# Altium footprint library Active-LED.PcbLib: 43 footprints (part 2 of 3)
Each footprint in its own frame and in the unit in brackets; x right, y up, seen from the top. Pads: shape width x height; smd on the part's side, far side on the other; paste and mask are expansions set on the pad; w line width, h text height; cw(c..) or ccw(c..) is an arc to the next point about the centre after c.
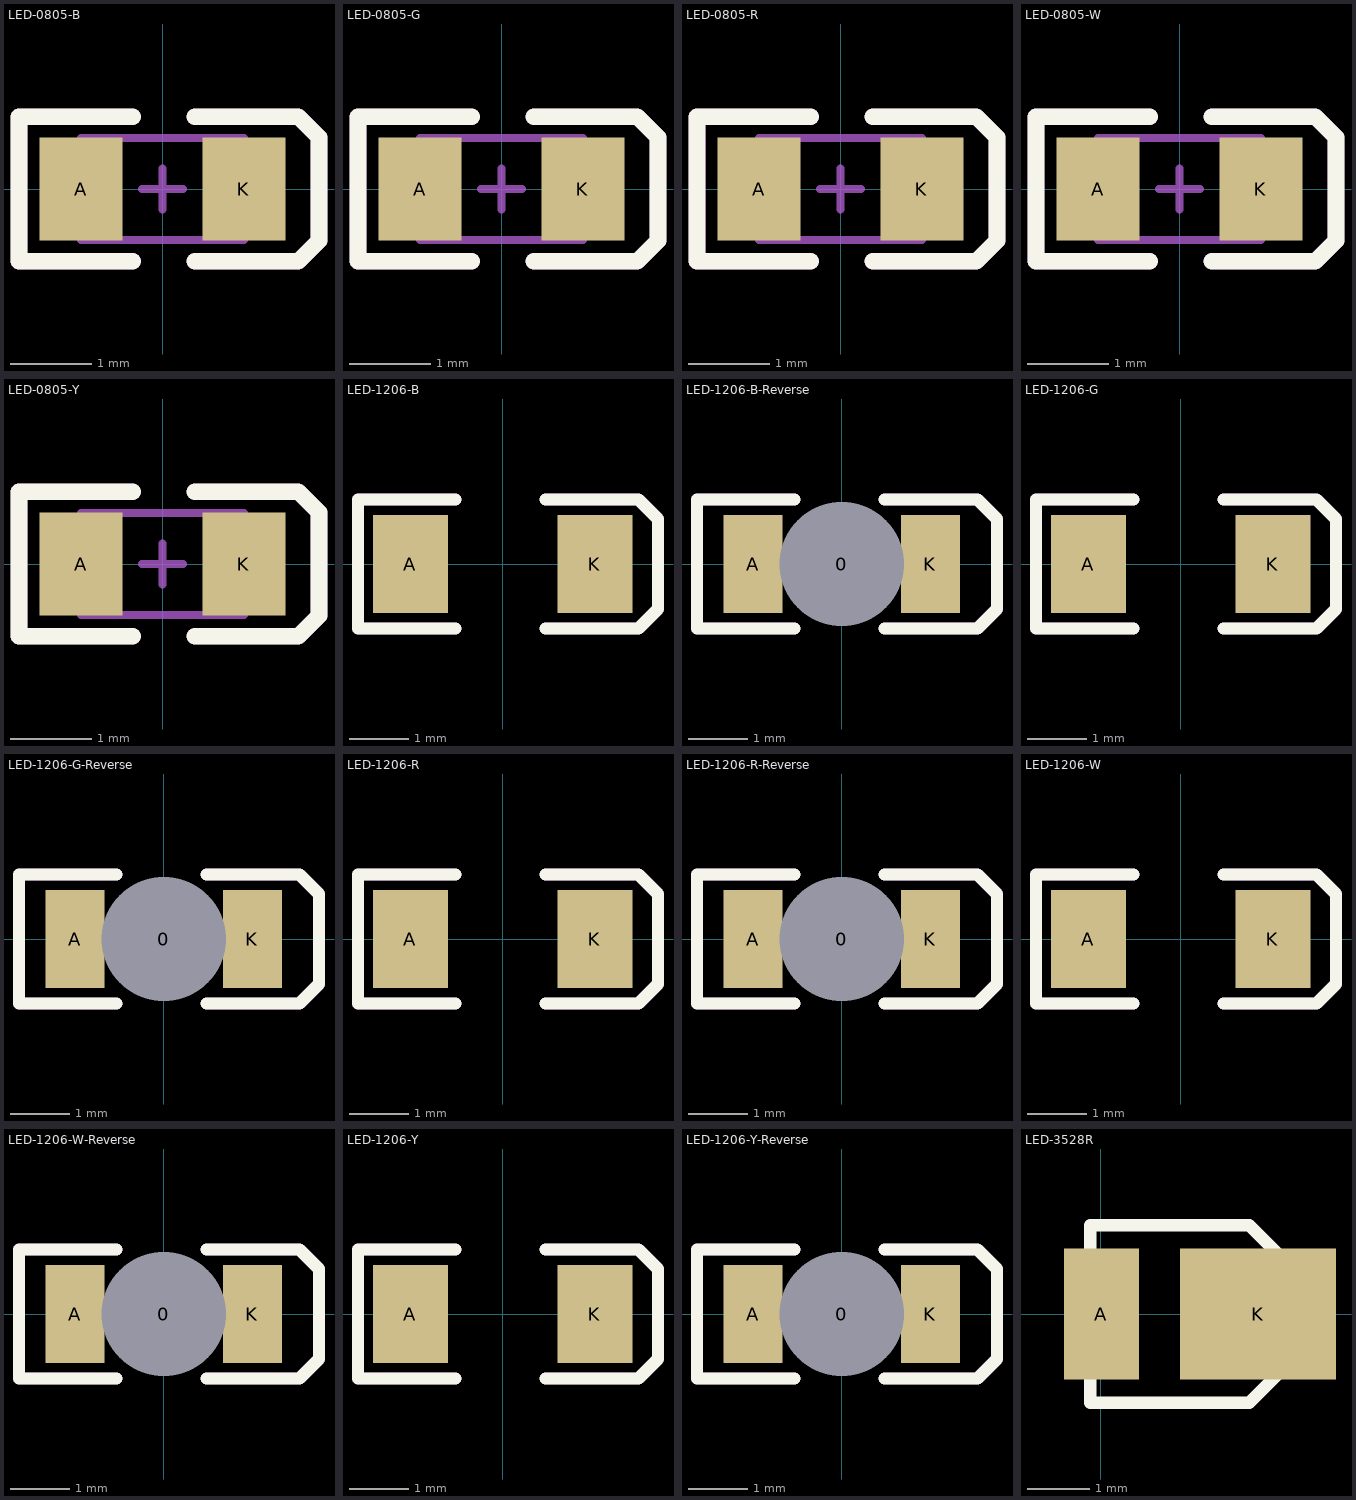
[diagram p1: the footprints below, top view; thin cyan lines are the x and y axes]

## LED-0805-B [mm]
pads (2):
  rect 1.016x1.27 smd: A(-1,0) K(1,0)
Top Overlay:
  lines w0.203: -0.365,-0.889 -1.762,-0.889 -1.762,0.889 -0.365,0.889 ; 0.397,-0.889 1.667,-0.889 1.921,-0.635 1.921,0.635 1.667,0.889 0.397,0.889
Top Component Outline:
  lines w0.1: -1,-0.625 1,-0.625 1,0.625 -1,0.625 -1,-0.625
Top Component Center:
  lines w0.1: -0.25,0 0.25,0 ; 0,-0.25 0,0.25
Top Value:
  text "'.Comment'" at -1.373,-0.19 h0.64
Top Designator:
  text "'.Designator'" at -2.186,-0.297 h0.76
Top Assembly (Mech20):
  lines w0.203: -0.365,-0.889 -1.762,-0.889 -1.762,0.889 -0.365,0.889 ; 0.397,-0.889 1.667,-0.889 1.921,-0.635 1.921,0.635 1.667,0.889 0.397,0.889
3D body "13.STEP": height 0.8, standoff 0, extent -1,-0.626 1,0.626

## LED-0805-G [mm] "KENTO - KT-0805G - C2297"
pads (2):
  rect 1.016x1.27 smd: A(-1,0) K(1,0)
Top Overlay:
  lines w0.203: -0.365,-0.889 -1.762,-0.889 -1.762,0.889 -0.365,0.889 ; 0.397,-0.889 1.667,-0.889 1.921,-0.635 1.921,0.635 1.667,0.889 0.397,0.889
Top Component Outline:
  lines w0.1: -1,-0.625 1,-0.625 1,0.625 -1,0.625 -1,-0.625
Top Component Center:
  lines w0.1: -0.25,0 0.25,0 ; 0,-0.25 0,0.25
Top Value:
  text "'.Comment'" at -1.373,-0.19 h0.64
Top Designator:
  text "'.Designator'" at -2.186,-0.297 h0.76
Top Assembly (Mech20):
  lines w0.203: -0.365,-0.889 -1.762,-0.889 -1.762,0.889 -0.365,0.889 ; 0.397,-0.889 1.667,-0.889 1.921,-0.635 1.921,0.635 1.667,0.889 0.397,0.889
3D body "12.STEP": height 0.8, standoff 0, extent -1,-0.622 1,0.63

## LED-0805-R [mm] "国星光电 - NCD0805R1 - C84256"
pads (2):
  rect 1.016x1.27 smd: A(-1,0) K(1,0)
Top Overlay:
  lines w0.203: -0.365,-0.889 -1.762,-0.889 -1.762,0.889 -0.365,0.889 ; 0.397,-0.889 1.667,-0.889 1.921,-0.635 1.921,0.635 1.667,0.889 0.397,0.889
Top Component Outline:
  lines w0.1: -1,-0.625 1,-0.625 1,0.625 -1,0.625 -1,-0.625
Top Component Center:
  lines w0.1: -0.25,0 0.25,0 ; 0,-0.25 0,0.25
Top Value:
  text "'.Comment'" at -1.373,-0.19 h0.64
Top Designator:
  text "'.Designator'" at -2.186,-0.297 h0.76
Top Assembly (Mech20):
  lines w0.203: -0.365,-0.889 -1.762,-0.889 -1.762,0.889 -0.365,0.889 ; 0.397,-0.889 1.667,-0.889 1.921,-0.635 1.921,0.635 1.667,0.889 0.397,0.889
3D body "11.STEP": height 0.8, standoff 0, extent -1,-0.626 1,0.626

## LED-0805-W [mm] "KENTO - KT-0805W - C34499"
pads (2):
  rect 1.016x1.27 smd: A(-1,0) K(1,0)
Top Overlay:
  lines w0.203: -0.365,-0.889 -1.762,-0.889 -1.762,0.889 -0.365,0.889 ; 0.397,-0.889 1.667,-0.889 1.921,-0.635 1.921,0.635 1.667,0.889 0.397,0.889
Top Component Outline:
  lines w0.1: -1,-0.625 -1,0.625 1,0.625 1,-0.625 -1,-0.625
Top Component Center:
  lines w0.1: -0.25,0 0.25,0 ; 0,-0.25 0,0.25
Top Value:
  text "'.Comment'" at -1.373,-0.19 h0.64
Top Designator:
  text "'.Designator'" at -2.186,-0.297 h0.76
Top Assembly (Mech20):
  lines w0.203: -0.365,-0.889 -1.762,-0.889 -1.762,0.889 -0.365,0.889 ; 0.397,-0.889 1.667,-0.889 1.921,-0.635 1.921,0.635 1.667,0.889 0.397,0.889
3D body "10.STEP": height 0.8, standoff 0, extent -1,-0.626 1,0.626

## LED-0805-Y [mm] "KENTO - KT-0805Y - C2296"
pads (2):
  rect 1.016x1.27 smd: A(-1,0) K(1,0)
Top Overlay:
  lines w0.203: -0.365,-0.889 -1.762,-0.889 -1.762,0.889 -0.365,0.889 ; 0.397,-0.889 1.667,-0.889 1.921,-0.635 1.921,0.635 1.667,0.889 0.397,0.889
Top Component Outline:
  lines w0.1: -1,-0.625 -1,0.625 1,0.625 1,-0.625 -1,-0.625
Top Component Center:
  lines w0.1: -0.25,0 0.25,0 ; 0,-0.25 0,0.25
Top Value:
  text "'.Comment'" at -1.373,-0.19 h0.64
Top Designator:
  text "'.Designator'" at -2.186,-0.297 h0.76
Top Assembly (Mech20):
  lines w0.203: -0.365,-0.889 -1.762,-0.889 -1.762,0.889 -0.365,0.889 ; 0.397,-0.889 1.667,-0.889 1.921,-0.635 1.921,0.635 1.667,0.889 0.397,0.889
3D body "m.STEP": height 0.8, standoff 0, extent -1,-0.626 1,0.626

## LED-1206-B [mil]
pads (2):
  rect 50x65 smd: A(-61.5,0) K(61.5,0)
Top Overlay:
  lines w8: -31.5,-43 -96.5,-43 -96.5,43 -31.5,43 ; 28.5,-43 90.5,-43 103.5,-30 103.5,30 90.5,43 28.5,43
Top Value:
  text "'.Comment'" at -110.7,-14.95 h50
Top Designator:
  text "'.Designator'" at -145.84,-19.48 h50
Top Assembly (Mech20):
  lines w8: -31.5,-43 -96.5,-43 -96.5,43 -31.5,43 ; 28.5,-43 90.5,-43 103.5,-30 103.5,30 90.5,43 28.5,43
3D body "8.STEP": height 39.57, standoff -0.04, extent -64.57,-31.54 61.5,31.53

## LED-1206-B-Reverse [mm]
pads (3):
  rrect50% 1x1 hole 2.1 unplated: 0(0,0)
  rect 1x1.651 smd: A(-1.5,0) K(1.5,0)
Top Overlay:
  lines w0.203: -0.8,-1.092 -2.451,-1.092 -2.451,1.092 -0.8,1.092 ; 0.724,-1.092 2.299,-1.092 2.629,-0.762 2.629,0.762 2.299,1.092 0.724,1.092
Top Value:
  text "'.Comment'" at -2.75,-0.38 h1.27
Top Designator:
  text "'.Designator'" at -3.642,-0.495 h1.27
Top Assembly (Mech20):
  lines w0.203: -0.8,-1.092 -2.451,-1.092 -2.451,1.092 -0.8,1.092 ; 0.724,-1.092 2.299,-1.092 2.629,-0.762 2.629,0.762 2.299,1.092 0.724,1.092
3D body "1206W-REVERSE.step": height 0.51, standoff -0.58, extent -1.61,-0.606 1.61,0.654

## LED-1206-G [mil]
pads (2):
  rect 50x65 smd: A(-61.5,0) K(61.5,0)
Top Overlay:
  lines w8: -31.5,-43 -96.5,-43 -96.5,43 -31.5,43 ; 28.5,-43 90.5,-43 103.5,-30 103.5,30 90.5,43 28.5,43
Top Value:
  text "'.Comment'" at -108.26,-14.95 h50
Top Designator:
  text "'.Designator'" at -143.39,-19.48 h50
Top Assembly (Mech20):
  lines w8: -31.5,-43 -96.5,-43 -96.5,43 -31.5,43 ; 28.5,-43 90.5,-43 103.5,-30 103.5,30 90.5,43 28.5,43
3D body "7.STEP": height 39.57, standoff -0.04, extent -64.57,-31.54 61.5,31.53

## LED-1206-G-Reverse [mm]
pads (3):
  rrect50% 1x1 hole 2.1 unplated: 0(0,0)
  rect 1x1.651 smd: A(-1.5,0) K(1.5,0)
Top Overlay:
  lines w0.203: -0.8,-1.092 -2.451,-1.092 -2.451,1.092 -0.8,1.092 ; 0.724,-1.092 2.299,-1.092 2.629,-0.762 2.629,0.762 2.299,1.092 0.724,1.092
Top Value:
  text "'.Comment'" at -2.75,-0.38 h1.27
Top Designator:
  text "'.Designator'" at -3.642,-0.495 h1.27
Top Assembly (Mech20):
  lines w0.203: -0.8,-1.092 -2.451,-1.092 -2.451,1.092 -0.8,1.092 ; 0.724,-1.092 2.299,-1.092 2.629,-0.762 2.629,0.762 2.299,1.092 0.724,1.092
3D body "1206G-REVERSE.step": height 0.5, standoff -0.62, extent -1.61,-0.635 1.61,0.625

## LED-1206-R [mil]
pads (2):
  rect 50x65 smd: A(-61.5,0) K(61.5,0)
Top Overlay:
  lines w8: -31.5,-43 -96.5,-43 -96.5,43 -31.5,43 ; 28.5,-43 90.5,-43 103.5,-30 103.5,30 90.5,43 28.5,43
Top Value:
  text "'.Comment'" at -108.26,-14.95 h50
Top Designator:
  text "'.Designator'" at -143.39,-19.48 h50
Top Assembly (Mech20):
  lines w8: -31.5,-43 -96.5,-43 -96.5,43 -31.5,43 ; 28.5,-43 90.5,-43 103.5,-30 103.5,30 90.5,43 28.5,43
3D body "6.STEP": height 39.57, standoff -0.04, extent -64.57,-31.54 61.5,31.53

## LED-1206-R-Reverse [mm]
pads (3):
  rrect50% 1x1 hole 2.1 unplated: 0(0,0)
  rect 1x1.651 smd: A(-1.5,0) K(1.5,0)
Top Overlay:
  lines w0.203: -0.8,-1.092 -2.451,-1.092 -2.451,1.092 -0.8,1.092 ; 0.724,-1.092 2.299,-1.092 2.629,-0.762 2.629,0.762 2.299,1.092 0.724,1.092
Top Value:
  text "'.Comment'" at -2.75,-0.38 h1.27
Top Designator:
  text "'.Designator'" at -3.642,-0.495 h1.27
Top Assembly (Mech20):
  lines w0.203: -0.8,-1.092 -2.451,-1.092 -2.451,1.092 -0.8,1.092 ; 0.724,-1.092 2.299,-1.092 2.629,-0.762 2.629,0.762 2.299,1.092 0.724,1.092
3D body "1206W-REVERSE.step": height 0.51, standoff -0.58, extent -1.61,-0.606 1.61,0.654

## LED-1206-W [mil]
pads (2):
  rect 50x65 smd: A(-61.5,0) K(61.5,0)
Top Overlay:
  lines w8: -31.5,-43 -96.5,-43 -96.5,43 -31.5,43 ; 28.5,-43 90.5,-43 103.5,-30 103.5,30 90.5,43 28.5,43
Top Value:
  text "'.Comment'" at -108.26,-14.95 h50
Top Designator:
  text "'.Designator'" at -143.39,-19.48 h50
Top Assembly (Mech20):
  lines w8: -31.5,-43 -96.5,-43 -96.5,43 -31.5,43 ; 28.5,-43 90.5,-43 103.5,-30 103.5,30 90.5,43 28.5,43
3D body "5.STEP": height 39.57, standoff -0.04, extent -61.5,-30 64.56,33.07

## LED-1206-W-Reverse [mm]
pads (3):
  rrect50% 1x1 hole 2.1 unplated: 0(0,0)
  rect 1x1.651 smd: A(-1.5,0) K(1.5,0)
Top Overlay:
  lines w0.203: -0.8,-1.092 -2.451,-1.092 -2.451,1.092 -0.8,1.092 ; 0.724,-1.092 2.299,-1.092 2.629,-0.762 2.629,0.762 2.299,1.092 0.724,1.092
Top Value:
  text "'.Comment'" at -2.75,-0.38 h1.27
Top Designator:
  text "'.Designator'" at -3.642,-0.495 h1.27
Top Assembly (Mech20):
  lines w0.203: -0.8,-1.092 -2.451,-1.092 -2.451,1.092 -0.8,1.092 ; 0.724,-1.092 2.299,-1.092 2.629,-0.762 2.629,0.762 2.299,1.092 0.724,1.092
3D body "1206W-REVERSE.step": height 0.51, standoff -0.58, extent -1.61,-0.606 1.61,0.654

## LED-1206-Y [mil]
pads (2):
  rect 50x65 smd: A(-61.5,0) K(61.5,0)
Top Overlay:
  lines w8: -31.5,-43 -96.5,-43 -96.5,43 -31.5,43 ; 28.5,-43 90.5,-43 103.5,-30 103.5,30 90.5,43 28.5,43
Top Value:
  text "'.Comment'" at -108.26,-14.95 h50
Top Designator:
  text "'.Designator'" at -143.39,-19.48 h50
Top Assembly (Mech20):
  lines w8: -31.5,-43 -96.5,-43 -96.5,43 -31.5,43 ; 28.5,-43 90.5,-43 103.5,-30 103.5,30 90.5,43 28.5,43
3D body "4.STEP": height 39.57, standoff -0.04, extent -64.53,-33.07 61.53,30

## LED-1206-Y-Reverse [mm]
pads (3):
  rrect50% 1x1 hole 2.1 unplated: 0(0,0)
  rect 1x1.651 smd: A(-1.5,0) K(1.5,0)
Top Overlay:
  lines w0.203: -0.8,-1.092 -2.451,-1.092 -2.451,1.092 -0.8,1.092 ; 0.724,-1.092 2.299,-1.092 2.629,-0.762 2.629,0.762 2.299,1.092 0.724,1.092
Top Value:
  text "'.Comment'" at -2.75,-0.38 h1.27
Top Designator:
  text "'.Designator'" at -3.642,-0.495 h1.27
Top Assembly (Mech20):
  lines w0.203: -0.8,-1.092 -2.451,-1.092 -2.451,1.092 -0.8,1.092 ; 0.724,-1.092 2.299,-1.092 2.629,-0.762 2.629,0.762 2.299,1.092 0.724,1.092
3D body "1206W-REVERSE.step": height 0.51, standoff -0.58, extent -1.61,-0.606 1.61,0.654

## LED-3528R [mm]
pads (2):
  rect 1.2x2.1 smd: A(0.013,0)
  rect 2.5x2.1 smd: K(2.527,0)
Top Overlay:
  lines w0.2: -0.165,-1.422 -0.165,1.422 2.388,1.422 3.34,0.47 3.34,-0.47 2.388,-1.422 -0.165,-1.422
3D body "3.STEP": height 1.95, standoff 0.05, extent -0.127,-1.4 3.373,1.4